# Altium footprint library SamacSys.PcbLib: 61 footprints (part 3 of 4)
Each footprint in its own frame and in the unit in brackets; x right, y up, seen from the top. Pads: shape width x height; smd on the part's side, far side on the other; paste and mask are expansions set on the pad; w line width, h text height; cw(c..) or ccw(c..) is an arc to the next point about the centre after c.
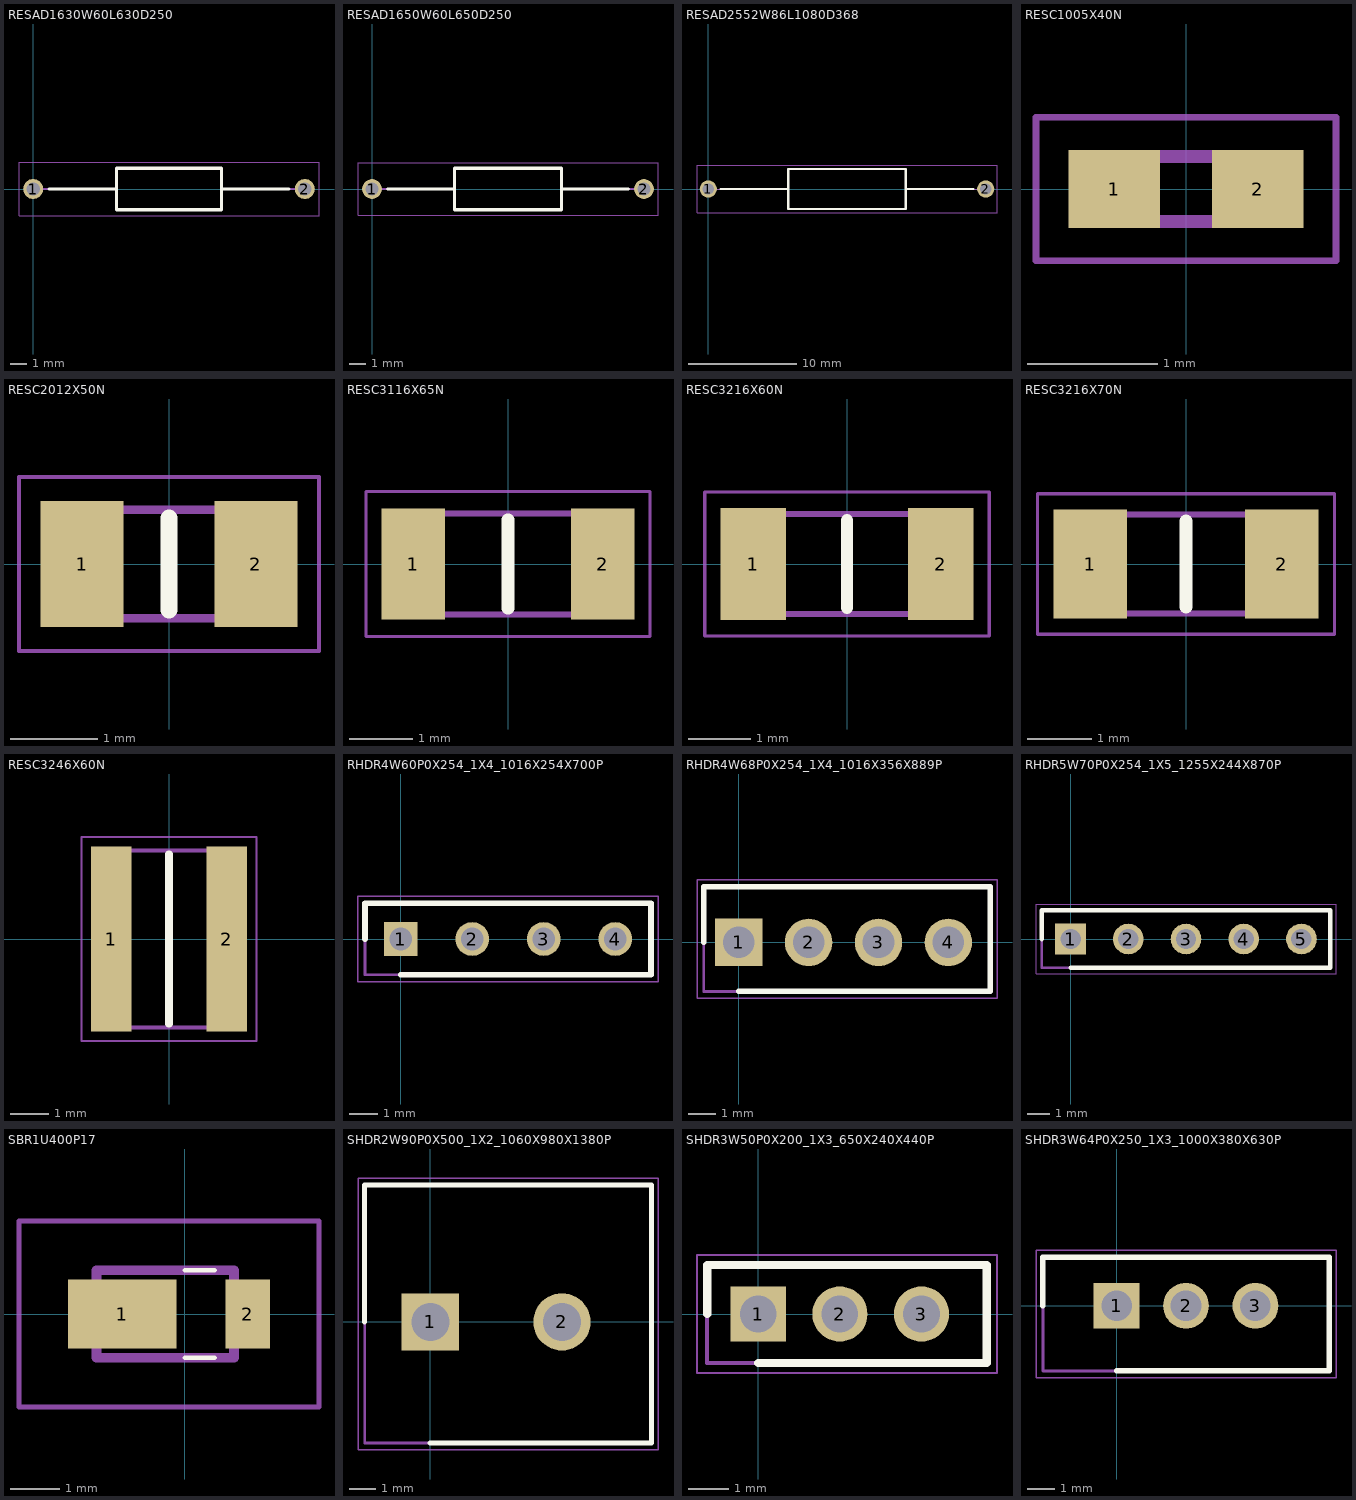
[diagram p2: the footprints below, top view; thin cyan lines are the x and y axes]

## RESAD1630W60L630D250 [mm]
pads (2):
  round 1.2 hole 0.8: 1(0,0) 2(16.3,0)
Top Overlay:
  lines w0.2: 0.95,0 5,0 ; 11.3,0 15.35,0 ; 5,-1.25 5,1.25 11.3,1.25 11.3,-1.25 5,-1.25
Mechanical 13:
  lines w0.1: 0,0 5,0 ; 11.3,0 16.3,0 ; 5,-1.25 5,1.25 11.3,1.25 11.3,-1.25 5,-1.25
Mechanical 15:
  lines w0.05: -0.85,-1.6 -0.85,1.6 17.15,1.6 17.15,-1.6 -0.85,-1.6
3D body "UXB02070F1000BR100.stp": height 2.5, standoff -2.5, extent -0.3,-1.241 16.6,1.241

## RESAD1650W60L650D250 [mm]
pads (2):
  round 1.2 hole 0.8: 1(0,0) 2(16.5,0)
Top Overlay:
  lines w0.2: 0.95,0 5,0 ; 11.5,0 15.55,0 ; 5,-1.25 5,1.25 11.5,1.25 11.5,-1.25 5,-1.25
Mechanical 13:
  lines w0.1: 0,0 5,0 ; 11.5,0 16.5,0 ; 5,-1.25 5,1.25 11.5,1.25 11.5,-1.25 5,-1.25
Mechanical 15:
  lines w0.05: -0.85,-1.6 -0.85,1.6 17.35,1.6 17.35,-1.6 -0.85,-1.6
3D body "MRS25000C1002FC100.stp": height 2.55, standoff -3.69, extent -0.3,-1.25 10.3,1.25

## RESAD2552W86L1080D368 [mm]
pads (2):
  round 1.575 hole 1.05: 1(0,0) 2(25.5,0)
Top Overlay:
  lines w0.2: 1.138,0 7.35,0 ; 18.15,0 24.362,0 ; 7.35,-1.84 7.35,1.84 18.15,1.84 18.15,-1.84 7.35,-1.84
Mechanical 13:
  lines w0.1: 0,0 7.35,0 ; 18.15,0 25.5,0 ; 7.35,-1.84 7.35,1.84 18.15,1.84 18.15,-1.84 7.35,-1.84
Mechanical 15:
  lines w0.05: -1.038,-2.19 -1.038,2.19 26.537,2.19 26.537,-2.19 -1.038,-2.19
3D body "CCF02100KJKE36.stp": height 4.05, standoff -4.06, extent -0.43,-2.027 25.95,2.027

## RESC1005X40N [mm]
pads (2):
  rect 0.7x0.6 smd: 1(-0.55,0) 2(0.55,0)
Mechanical 13:
  lines w0.1: -0.5,-0.25 -0.5,0.25 0.5,0.25 0.5,-0.25 -0.5,-0.25
Mechanical 15:
  lines w0.05: -1.15,-0.55 -1.15,0.55 1.15,0.55 1.15,-0.55 -1.15,-0.55
3D body "TNPU04021K00BZEP00.stp": height 0.4, standoff 0, extent -0.5,-0.25 0.5,0.25

## RESC2012X50N [mm]
pads (2):
  rect 0.95x1.45 smd: 1(-1,0) 2(1,0)
Top Overlay:
  lines w0.2: 0,-0.525 0,0.525
Mechanical 13:
  lines w0.1: -1.025,-0.625 -1.025,0.625 1.025,0.625 1.025,-0.625 -1.025,-0.625
Mechanical 15:
  lines w0.05: -1.725,-1 -1.725,1 1.725,1 1.725,-1 -1.725,-1
3D body "CRCW080556R0FKEA.stp": height 0.45, standoff 0, extent -1,-0.62 1,0.63

## RESC3116X65N [mm]
pads (2):
  rect 1x1.75 smd: 1(-1.5,0) 2(1.5,0)
Top Overlay:
  lines w0.2: 0,-0.7 0,0.7
Mechanical 13:
  lines w0.1: -1.55,-0.8 -1.55,0.8 1.55,0.8 1.55,-0.8 -1.55,-0.8
Mechanical 15:
  lines w0.05: -2.25,-1.15 -2.25,1.15 2.25,1.15 2.25,-1.15 -2.25,-1.15
3D body "RC1206FR-071KL.stp": height 0.65, standoff 0, extent -1.55,-0.8 1.55,0.8

## RESC3216X60N [mm]
pads (2):
  rect 1.05x1.8 smd: 1(-1.5,0) 2(1.5,0)
Top Overlay:
  lines w0.2: 0,-0.7 0,0.7
Mechanical 13:
  lines w0.1: -1.575,-0.8 -1.575,0.8 1.575,0.8 1.575,-0.8 -1.575,-0.8
Mechanical 15:
  lines w0.05: -2.275,-1.15 -2.275,1.15 2.275,1.15 2.275,-1.15 -2.275,-1.15
3D body "CRCW12061K54FKTA.stp": height 0.55, standoff 0, extent -1.42,-0.74 1.78,0.86

## RESC3216X70N [mm]
pads (2):
  rect 1.15x1.7 smd: 1(-1.5,0) 2(1.5,0)
Top Overlay:
  lines w0.2: 0,-0.675 0,0.675
Mechanical 13:
  lines w0.1: -1.6,-0.775 -1.6,0.775 1.6,0.775 1.6,-0.775 -1.6,-0.775
Mechanical 15:
  lines w0.05: -2.325,-1.1 -2.325,1.1 2.325,1.1 2.325,-1.1 -2.325,-1.1
3D body "ERA-8AEB1431V.stp": height 0.6, standoff 0, extent -1.6,-0.8 1.6,0.8

## RESC3246X60N [mm]
pads (2):
  rect 1.05x4.8 smd: 1(-1.5,0) 2(1.5,0)
Top Overlay:
  lines w0.2: 0,-2.2 0,2.2
Mechanical 13:
  lines w0.1: -1.575,-2.3 -1.575,2.3 1.575,2.3 1.575,-2.3 -1.575,-2.3
Mechanical 15:
  lines w0.05: -2.275,-2.65 -2.275,2.65 2.275,2.65 2.275,-2.65 -2.275,-2.65
3D body "CRCW12181K50JNEK.stp": height 0.6, standoff 0, extent -1.575,-2.3 1.575,2.3

## RHDR4W60P0X254_1X4_1016X254X700P [mm]
pads (4):
  rect 1.2x1.2 hole 0.8: 1(0,0)
  round 1.2 hole 0.8: 2(2.54,0) 3(5.08,0) 4(7.62,0)
Top Overlay:
  lines w0.2: -1.27,0 -1.27,1.27 8.89,1.27 8.89,-1.27 0,-1.27
Mechanical 13:
  lines w0.1: -1.27,-1.27 8.89,-1.27 8.89,1.27 -1.27,1.27 -1.27,-1.27
Mechanical 15:
  lines w0.05: -1.52,-1.52 9.14,-1.52 9.14,1.52 -1.52,1.52 -1.52,-1.52
3D body "BL1-004-G700-95.stp": height 7, standoff -3, extent -1.27,-1.27 8.89,1.27

## RHDR4W68P0X254_1X4_1016X356X889P [mm]
pads (4):
  rect 1.725x1.725 hole 1.15: 1(0,0)
  round 1.725 hole 1.15: 2(2.54,0) 3(5.08,0) 4(7.62,0)
Top Overlay:
  lines w0.2: -1.27,0 -1.27,2.03 9.14,2.03 9.14,-1.78 0,-1.78
Mechanical 13:
  lines w0.1: -1.27,-1.78 9.14,-1.78 9.14,2.03 -1.27,2.03 -1.27,-1.78
Mechanical 15:
  lines w0.05: -1.52,-2.03 9.39,-2.03 9.39,2.28 -1.52,2.28 -1.52,-2.03
3D body "5-146763-6.stp": height 8.64, standoff -2.92, extent -1.14,-1.648 9.02,1.908

## RHDR5W70P0X254_1X5_1255X244X870P [mm]
pads (5):
  rect 1.35x1.35 hole 0.9: 1(0,0)
  round 1.35 hole 0.9: 2(2.54,0) 3(5.08,0) 4(7.62,0) 5(10.16,0)
Top Overlay:
  lines w0.2: -1.27,0 -1.27,1.27 11.43,1.27 11.43,-1.27 0,-1.27
Mechanical 13:
  lines w0.1: -1.27,-1.27 11.43,-1.27 11.43,1.27 -1.27,1.27 -1.27,-1.27
Mechanical 15:
  lines w0.05: -1.52,-1.52 11.68,-1.52 11.68,1.52 -1.52,1.52 -1.52,-1.52
3D body "90147-1105.stp": height 8.55, standoff -2.85, extent -1.27,-1.27 11.43,1.27

## SBR1U400P17 [mm]
pads (2):
  rect 2.2x1.4 smd: 1(-1.275,0)
  rect 0.9x1.4 smd: 2(1.275,0)
Top Overlay:
  lines w0.1: 0,-0.89 0.6,-0.89 ; 0,0.89 0.6,0.89
Mechanical 13:
  lines w0.2: -1.8,-0.89 -1.8,0.89 1,0.89 1,-0.89 -1.8,-0.89
Mechanical 15:
  lines w0.1: -3.375,-1.89 -3.375,1.89 2.725,1.89 2.725,-1.89 -3.375,-1.89
3D body "SBR1U400P1-7.stp": height 1.1, standoff 0, extent -2.235,-0.89 1.635,0.89

## SHDR2W90P0X500_1X2_1060X980X1380P [mm]
pads (2):
  rect 2.175x2.175 hole 1.45: 1(0,0)
  round 2.175 hole 1.45: 2(5,0)
Top Overlay:
  lines w0.2: -2.5,0 -2.5,5.2 8.4,5.2 8.4,-4.6 0,-4.6
Mechanical 13:
  lines w0.1: -2.5,-4.6 8.4,-4.6 8.4,5.2 -2.5,5.2 -2.5,-4.6
Mechanical 15:
  lines w0.05: -2.75,-4.85 8.65,-4.85 8.65,5.45 -2.75,5.45 -2.75,-4.85
3D body "691216710002.stp": height 13.8, standoff -3.5, extent -2.5,-4.6 8.1,5.2

## SHDR3W50P0X200_1X3_650X240X440P [mm]
pads (3):
  rect 1.35x1.35 hole 0.9: 1(0,0)
  round 1.35 hole 0.9: 2(2,0) 3(4,0)
Top Overlay:
  lines w0.2: -1.25,0 -1.25,1.2 5.6,1.2 5.6,-1.2 0,-1.2
Mechanical 13:
  lines w0.1: -1.25,-1.2 5.6,-1.2 5.6,1.2 -1.25,1.2 -1.25,-1.2
Mechanical 15:
  lines w0.05: -1.5,-1.45 5.85,-1.45 5.85,1.45 -1.5,1.45 -1.5,-1.45
3D body "M22-7130342.stp": height 4.4, standoff -2.6, extent -1.25,-1.2 5.25,1.2

## SHDR3W64P0X250_1X3_1000X380X630P [mm]
pads (3):
  rect 1.65x1.65 hole 1.1: 1(0,0)
  round 1.65 hole 1.1: 2(2.5,0) 3(5,0)
Top Overlay:
  lines w0.2: -2.65,0 -2.65,1.75 7.65,1.75 7.65,-2.35 0,-2.35
Mechanical 13:
  lines w0.1: -2.65,-2.35 7.65,-2.35 7.65,1.75 -2.65,1.75 -2.65,-2.35
Mechanical 15:
  lines w0.05: -2.9,-2.6 7.9,-2.6 7.9,2 -2.9,2 -2.9,-2.6
3D body "440052-3.stp": height 6, standoff -3.4, extent -2.5,-1.82 7.5,1.98